# Altium integrated library FUSE_FERRITE_VDR.IntLib: 9 symbols
Pins are listed as number, name and electrical type; pins without a type are passive.

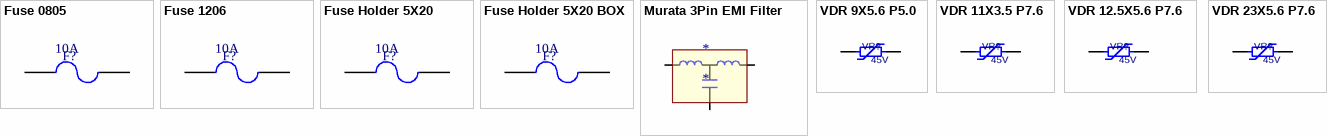
[diagram p0: symbols Fuse 0805 to VDR 23X5.6 P7.6]

## Fuse 0805
designator F?  value 10A
footprint FUSE_0805
pins: 1, 2

## Fuse 1206
designator F?  value 10A
footprint FUSE_1206
pins: 1, 2

## Fuse Holder 5X20
designator F?  value 10A
footprint FUSE_HOLDER2
pins: 1, 2

## Fuse Holder 5X20 BOX
designator F?  value 10A
footprint FUSE_HOLDER1
pins: 1, 2

## Murata 3Pin EMI Filter
designator *
footprint MURATA_EMI_3PIN
pins: 1, 2, 3

## VDR 9X5.6 P5.0
designator VR?, comment 45V
VDR; MANF: Bourns; PARAM2: 35VAC/45VDC; MANF_P#: MOV-07D560K, ZOV-07D560K; PRICE: 100t; VALUE: 45V
footprint VDR 9X5.6mm P5.0 (VDR, VARISTOR, 9X5.6, pitch: 5.0mm, 275VAC(RMS))
pins: 1, 2

## VDR 11X3.5 P7.6
designator VR?, comment 45V
VDR; MANF: Bourns; PARAM2: 35VAC/45VDC; MANF_P#: MOV-07D560K, ZOV-07D560K; PRICE: 100t; VALUE: 45V
footprint VDR 11X3.5,, P7.6 (VDR, VARISTOR,)
pins: 1, 2

## VDR 12.5X5.6 P7.6
designator VR?, comment 45V
VDR; MANF: Bourns; PARAM2: 35VAC/45VDC; MANF_P#: MOV-07D560K, ZOV-07D560K; PRICE: 100t; VALUE: 45V
footprint VDR 12.5X5.6mm P7.6 (VDR, VARISTOR, 12.5X5.6, pitch: 7.6mm, 420VAC(RMS))
pins: 1, 2

## VDR 23X5.6 P7.6
designator VR?, comment 45V
VDR; MANF: Bourns; PARAM2: 35VAC/45VDC; MANF_P#: MOV-07D560K, ZOV-07D560K; PRICE: 100t; VALUE: 45V
footprint VDR 23X5.6mm P7.6 (VDR, VARISTOR, 23X5.6mm, pitch: 7.6mm, MOV-07DxxxK Metal Oxide Varistor (MOVs))
pins: 1, 2